# Altium schematic symbol library 2-2176053-0.SchLib: 1 symbol
Pins are listed as number, name and electrical type; pins without a type are passive.

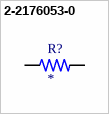
[diagram p0: symbol 2-2176053-0]

## 2-2176053-0
designator R?
RES 0.33 OHM 1% 1/4W 0805; Power_Rating: .25 W; MP: 2-2176053-0; Resistance: .33; MF: TE Connectivity; Price: None; Availability: In Stock; EU_RoHS_Compliance: Compliant with Exemptions; Package: 0805; Value: *; Tolerance: 1%; SnapEDA_Link: https://www.snapeda.com/parts/2-2176053-0/TE+Connectivity/view-part/?ref=snap; Check_prices: https://www.snapeda.com/parts/2-2176053-0/TE+Connectivity/view-part/?ref=eda
footprint RESC2012X65N
pins: 1, 2